# EAGLE library part MOLEG_REC_8X0.4MM (library MOLEX)
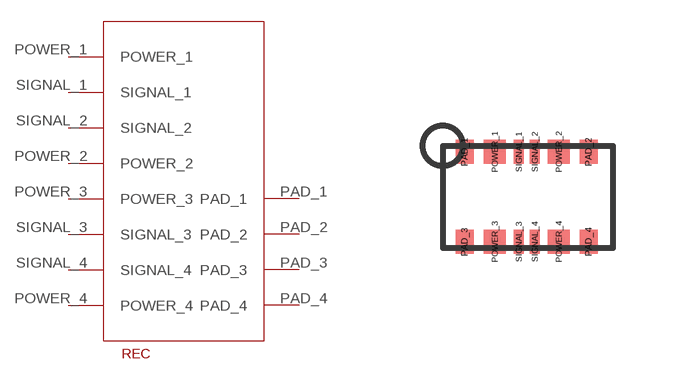
[diagram p1: symbol with the pads of REC; footprint REC]

Designator prefix -

## MOLEG_REC_8X0.4MM  [REC]
PAD_1  PAD_1
PAD_2  PAD_2
PAD_3  PAD_3
PAD_4  PAD_4
POWER_1  POWER_1
POWER_2  POWER_2
POWER_3  POWER_3
POWER_4  POWER_4
SIGNAL_1  SIGNAL_1
SIGNAL_2  SIGNAL_2
SIGNAL_3  SIGNAL_3
SIGNAL_4  SIGNAL_4

## Footprint REC (pad centres in mm)
smd 0.45 x 0.6: PAD_1 -0.75,0; PAD_2 2.35,0; PAD_3 -0.75,-2.25; PAD_4 2.35,-2.25
smd 0.55 x 0.6: POWER_1 0,0; POWER_2 1.6,0; POWER_3 0,-2.25; POWER_4 1.6,-2.25
smd 0.24 x 0.6: SIGNAL_1 0.6,0; SIGNAL_2 1,0; SIGNAL_3 0.6,-2.25; SIGNAL_4 1,-2.25